# Altium schematic symbol library 280371-2.SchLib: 1 symbol
Pins are listed as number, name and electrical type; pins without a type are passive.

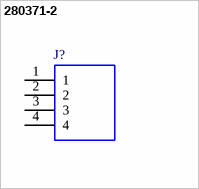
[diagram p0: symbol 280371-2]

## 280371-2
designator J?
4 way 1 row straight shrouded header; Manufacturer_Name: TE Connectivity; Geometry.Height: 12.8mm; Manufacturer_Part_Number: 280371-2; Mouser Part Number: 571-280371-2; Mouser Price/Stock: https://www.mouser.co.uk/ProductDetail/TE-Connectivity/280371-2?qs=NCegfZXRvjgzX%2FK7rtD32w%3D%3D; Arrow Part Number: 280371-2; Arrow Price/Stock: https://www.arrow.com/en/products/280371-2/te-connectivity?region=europe; Mouser Testing Part Number: *; Mouser Testing Price/Stock: *; Datasheet Link: https://componentsearchengine.com/Datasheets/2/280371-2.pdf
footprint SHDR4W63P0X254_1X4_1250X500X1280P
pins: 1, 2, 3, 4